# Altium schematic symbol library SCH - POWER - SWITCHMODE - TI TPS65265RHB.SchLib: 1 symbol
Pins are listed as number, name and electrical type; pins without a type are passive.

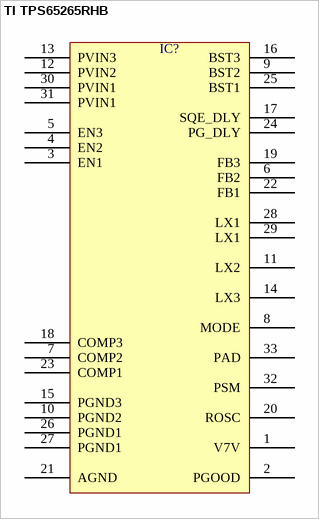
[diagram p0: symbol TI TPS65265RHB]

## TI TPS65265RHB
designator IC?  (value not drawn)
pins: 1 V7V, 2 PGOOD, 3 EN1, 4 EN2, 5 EN3, 6 FB2, 7 COMP2, 8 MODE, 9 BST2, 10 PGND2, 11 LX2, 12 PVIN2, 13 PVIN3, 14 LX3, 15 PGND3, 16 BST3, 17 SQE_DLY, 18 COMP3, 19 FB3, 20 ROSC, 21 AGND, 22 FB1, 23 COMP1, 24 PG_DLY, 25 BST1, 26 PGND1, 27 PGND1, 28 LX1, 29 LX1, 30 PVIN1, 31 PVIN1, 32 PSM, 33 PAD